# EAGLE library part MICROSD (library kmod-connectors)
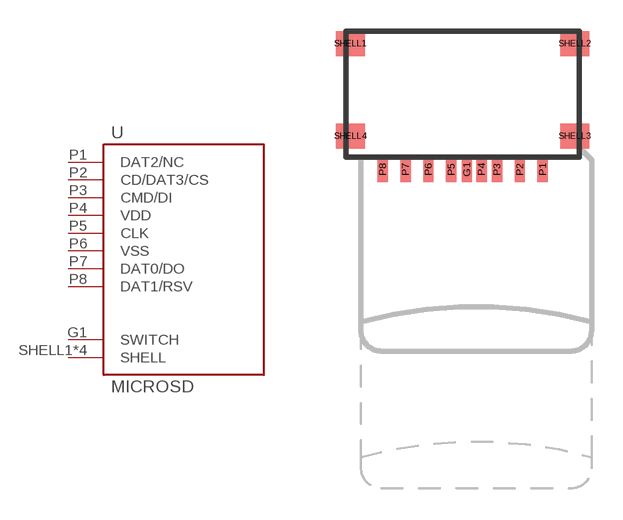
[diagram p7: symbol with the pads of MICROSD-MOLEX-1050270001; footprint MICROSD-MOLEX-1050270001]

Designator prefix -

## MICROSDMOLEX-1050270001 (SWITCH_TYPE: N.O. to VDD)  [MICROSD-MOLEX-1050270001]
G1  SWITCH
P1  DAT2/NC
P2  CD/DAT3/CS
P3  CMD/DI
P4  VDD
P5  CLK
P6  VSS
P7  DAT0/DO
P8  DAT1/RSV
SHELL1  SHELL
SHELL2  SHELL
SHELL3  SHELL
SHELL4  SHELL

## Footprint MICROSD-MOLEX-1050270001 (pad centres in mm)
Molex push-pull microSD connector. Short length, external pins. Molex part number 1050270001 http://www.molex.com/pdm_docs/sd/1050270001_sd.pdf http://www.digikey.com/product-detail/en/1050270001/WM6825CT-ND/3045221
smd 0.5 x 1.2: G1 0.2,-6.65; P1 3.85,-6.65; P2 2.75,-6.65; P3 1.65,-6.65; P4 0.9,-6.65; P5 -0.55,-6.65; P6 -1.65,-6.65; P7 -2.75,-6.65; P8 -3.85,-6.65
smd 1.4 x 1.2: SHELL1 -5.4,-0.6; SHELL2 5.4,-0.6; SHELL3 5.4,-5.05; SHELL4 -5.4,-5.05